# Altium schematic symbol library LSM6DSO.SchLib: 1 symbol
Pins are listed as number, name and electrical type; pins without a type are passive.

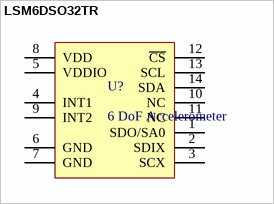
[diagram p0: symbol LSM6DSO32TR]

## LSM6DSO32TR
designator U?, comment 6 DoF Accelerometer
Accelerometer and 3D Gyroscope 3D Always-On 1.71V to 3.6V 0.55mA 14-Pin LGA T/R; Manufacturer: STMicroelectronics; Manufacturer Part Number: LSM6DSO32TR; Supplier 1: Digi-Key; Supplier Part Number 1: 497-LSM6DSO32CT-ND; RoHS: Yes; Category: Inertial Measurement Units (IMUs); Stock 1: 3420; Pricing 1: 1=4.97000, 10=4.46700, 25=4.22280, 100=3.65990, 500=3.12812 (USD)
footprint LSM6DSO (Handmade footprint of LSM6DSO32TR)
pins: 1 SDO/SA0, 2 SDIX, 3 SCX, 4 INT1, 5 VDDIO, 6 GND, 7 GND, 8 VDD, 9 INT2, 10 NC, 11 NC, 12 ~{CS}, 13 SCL, 14 SDA